# Altium footprint library LED-0603.PcbLib: 1 footprints
Each footprint in its own frame and in the unit in brackets; x right, y up, seen from the top. Pads: shape width x height; smd on the part's side, far side on the other; paste and mask are expansions set on the pad; w line width, h text height; cw(c..) or ccw(c..) is an arc to the next point about the centre after c.
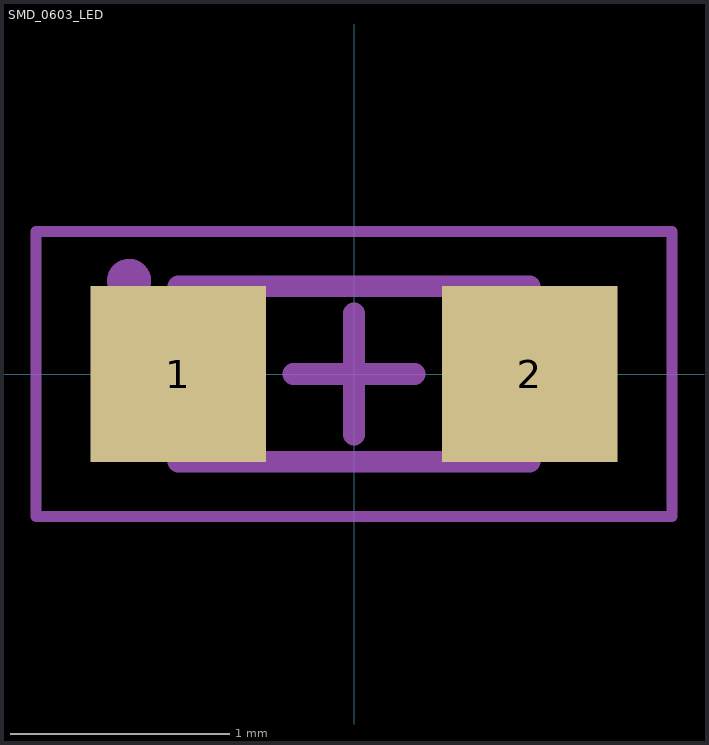
[diagram p0: the footprint, top view; thin cyan lines are the x and y axes]

## SMD_0603_LED [mm]
height 0.8
pads (2):
  rect 0.8x0.8 smd: 1(-0.8,0) 2(0.8,0)
Mechanical 6:
  text "'.Designator'" at -0.55,-0.125 h0.3
Mechanical 8:
  circle w0.1: c-1.025,0.425 r0.05
  lines w0.05: -1.45,-0.65 1.45,-0.65 1.45,0.65 -1.45,0.65 -1.45,-0.65
Mechanical 13:
  region: -0.75,0.4 -0.5,0.4 -0.5,-0.4 -0.75,-0.4
  lines w0.1: -0.8,-0.4 -0.8,0.4 0.8,0.4 0.8,-0.4 -0.8,-0.4
Mechanical 15:
  lines w0.05: -1.45,-0.65 -1.45,0.65 1.45,0.65 1.45,-0.65 -1.45,-0.65
  lines w0.1: -0.275,0 0.275,0 ; 0,-0.275 0,0.275
3D body "STEP-WL-SMCW-0603-rev1.stp": height 0.7, standoff 0, extent -0.8,-0.4 0.8,0.4